# EAGLE library part AE-BNO055-BO (library FaBo-Connetor)
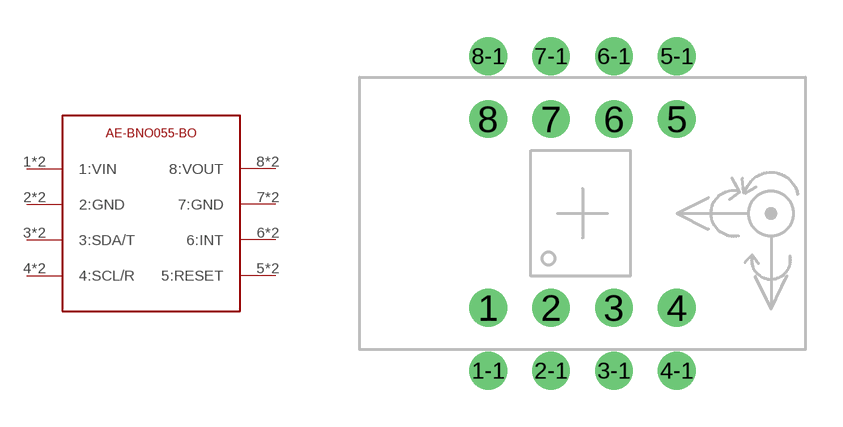
[diagram p25: symbol with the pads of DIP_8; footprint DIP_8]

Designator prefix -

## AE-BNO055-BO  [DIP_8]
1  1:VIN  pwr
1-1  1:VIN  pwr
2  2:GND  pwr
2-1  2:GND  pwr
3  3:SDA/T
3-1  3:SDA/T
4  4:SCL/R
4-1  4:SCL/R
5  5:RESET  in
5-1  5:RESET  in
6  6:INT  out
6-1  6:INT  out
7  7:GND  pwr
7-1  7:GND  pwr
8  8:VOUT  sup
8-1  8:VOUT  sup

## Footprint DIP_8 (pad centres in mm)
drill 1.02: 1 -3.81,-3.81; 1-1 -3.81,-6.35; 2 -1.27,-3.81; 2-1 -1.27,-6.35; 3 1.27,-3.81; 3-1 1.27,-6.35; 4 3.81,-3.81; 4-1 3.81,-6.35; 5 3.81,3.81; 5-1 3.81,6.35; 6 1.27,3.81; 6-1 1.27,6.35; 7 -1.27,3.81; 7-1 -1.27,6.35; 8 -3.81,3.81; 8-1 -3.81,6.35